# EAGLE library part NTGS4111 (library robotter_ic)
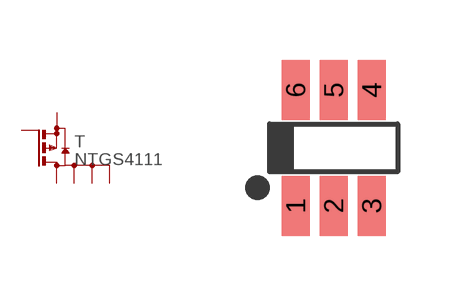
[diagram p18: symbol with the pads of TSOP-6; footprint TSOP-6]

Designator prefix T

## NTGS4111PT1G (MOUSER: 863-NTGS4111PT1G; RS: 780-0567; VALUE: NTGS4111PT1G)  [TSOP-6]
1  D  pas
2  D  pas
3  G  pas
4  S  pas
5  D  pas
6  D  pas

## Footprint TSOP-6 (pad centres in mm)
smd 0.7 x 1.5: 1 -0.95,-1.45; 2 0,-1.45; 3 0.95,-1.45; 4 0.95,1.45; 5 0,1.45; 6 -0.95,1.45